# Altium footprint library OpenVizsla footprints.PcbLib: 47 footprints (part 2 of 3)
Each footprint in its own frame and in the unit in brackets; x right, y up, seen from the top. Pads: shape width x height; smd on the part's side, far side on the other; paste and mask are expansions set on the pad; w line width, h text height; cw(c..) or ccw(c..) is an arc to the next point about the centre after c.
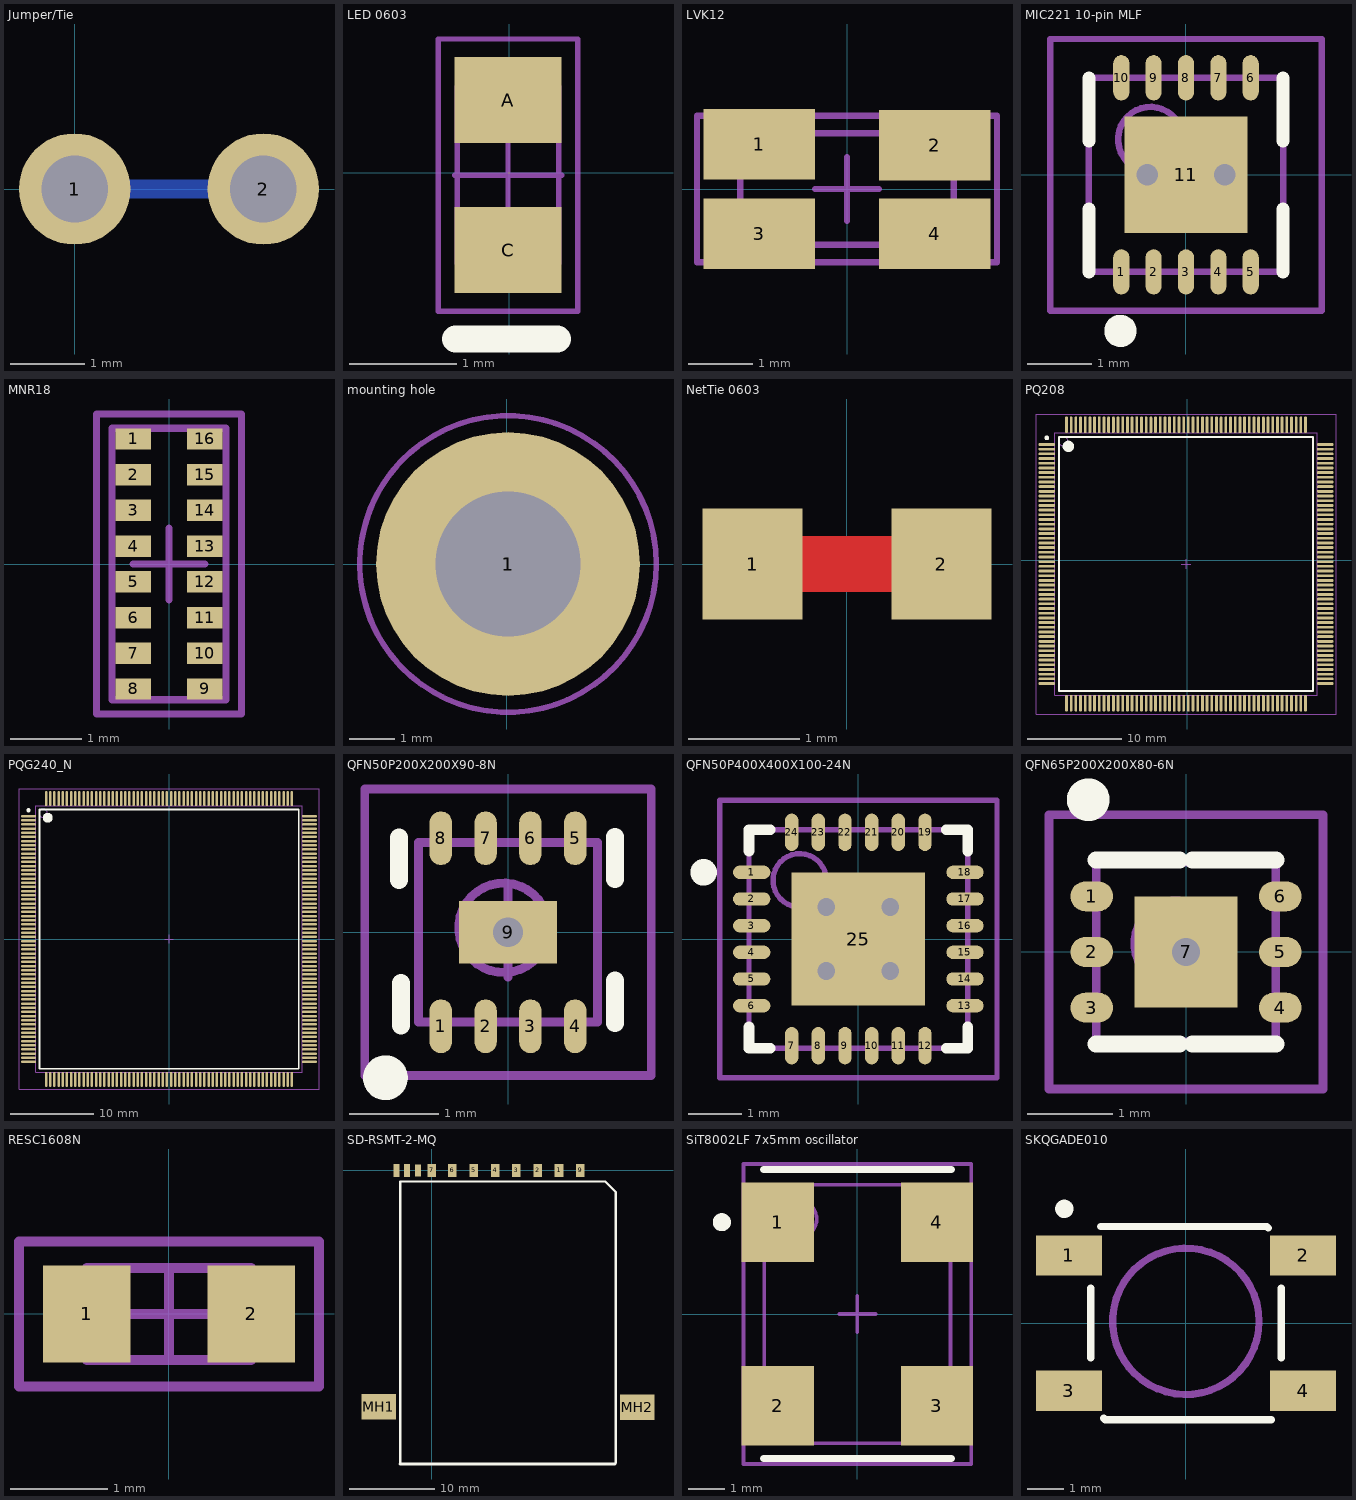
[diagram p1: the footprints below, top view; thin cyan lines are the x and y axes]

## Jumper/Tie [mm] "Jumper / Net Tie"
pads (2):
  round 1.5 hole 0.9: 1(0,0) 2(2.54,0)
Bottom Layer:
  lines w0.254: 0,0 2.54,0

## LED 0603 [mm]
pads (2):
  rect 1x0.8 smd: A(-0.01,0.68) C(-0.01,-0.72)
Top Overlay:
  lines w0.254: -0.5,-1.55 0.45,-1.55
Mechanical 11:
  lines w0.005: -0.485,-0.845 -0.485,-0.02 -0.485,0.805 0.465,0.805 0.465,-0.845 -0.485,-0.845
Mechanical 13:
  lines w0.05: -0.485,-0.845 0.465,-0.845 0.465,0.805 -0.485,0.805 -0.485,-0.02 -0.485,-0.845
Mechanical 15:
  lines w0.05: -0.51,-0.02 -0.01,-0.02 ; -0.01,-0.52 -0.01,-0.02 ; -0.01,0.48 -0.01,-0.02 ; 0.49,-0.02 -0.01,-0.02 ; -0.66,-1.29 0.64,-1.29 0.64,1.25 -0.66,1.25 -0.66,-0.02 -0.66,-1.29
3D body: height 0.71, standoff -0.01, extent -0.391,-0.833 0.396,0.793
3D body: height 0.75, standoff 0, extent -0.38,-0.58 0.39,0.54

## LVK12 [mm] "4-terminal current-sensing chip resistor"
height 0.65
pads (4):
  rect 1.75x1.1 smd: 1(-1.375,0.7) 2(1.375,0.686) 3(-1.375,-0.7) 4(1.375,-0.7)
Mechanical 13:
  lines w0.1: -1.675,-0.875 1.675,-0.875 1.675,0.875 -1.675,0.875 -1.675,-0.875
Mechanical 15:
  lines w0.1: -0.5,0 0.5,0 ; 0,-0.5 0,0.5 ; -2.35,-1.15 2.35,-1.15 2.35,1.15 -2.35,1.15 -2.35,-1.15
3D body: height 0.71, standoff 0, extent -1.675,-0.875 1.675,0.875

## MIC221 10-pin MLF [mm] "QFN, 10-Leads, Body 3.0x3.0mm (max), Pitch 0.50mm, IPC Medium Density"
height 1
pads (11):
  oval 0.25x0.7 smd: 1(-1,-1.5) 2(-0.5,-1.5) 3(0,-1.5) 4(0.5,-1.5) 5(1,-1.5) 6(1,1.5) 7(0.5,1.5) 8(0,1.5) 9(-0.5,1.5) 10(-1,1.5)
  rect 1.9x1.8 smd: 11(0,0)
via 0.6,0 diameter 0.66 hole 0.33
via -0.6,0 diameter 0.66 hole 0.33
Top Overlay:
  circle w0.25: c-1.014,-2.413 r0.125
  lines w0.2: -1.5,-1.5 -1.5,-0.525 ; -1.5,0.525 -1.5,1.5 ; 1.5,-1.5 1.5,-0.525 ; 1.5,0.525 1.5,1.5
Mechanical 13:
  circle w0.1: c-0.55,0.55 r0.5
  lines w0.1: -1.5,-1.5 1.5,-1.5 1.5,1.5 -1.5,1.5 -1.5,-1.5
Mechanical 15:
  lines w0.1: -0.5,0 0.5,0 ; 0,-0.5 0,0.5 ; -2.1,-2.1 2.1,-2.1 2.1,2.1 -2.1,2.1 -2.1,-2.1
3D body: height 1, standoff 0, extent -1.5,-1.5 1.5,1.5

## MNR18 [mm] "8-element chip resistor array (0602x8)"
height 0.45
pads (16):
  rect 0.5x0.3 smd mask+0: 1(-0.5,1.75) 2(-0.5,1.25) 3(-0.5,0.75) 4(-0.5,0.25) 5(-0.5,-0.25) 6(-0.5,-0.75) 7(-0.5,-1.25) 8(-0.5,-1.75) 9(0.5,-1.75) 10(0.5,-1.25) 11(0.5,-0.75) 12(0.5,-0.25) 13(0.5,0.25) 14(0.5,0.75) 15(0.5,1.25) 16(0.5,1.75)
Mechanical 13:
  lines w0.1: -0.8,-1.9 0.8,-1.9 0.8,1.9 -0.8,1.9 -0.8,-1.9
Mechanical 15:
  lines w0.1: -0.5,0 0.5,0 ; 0,-0.5 0,0.5 ; -1.016,-2.1 1.016,-2.1 1.016,2.1 -1.016,2.1 -1.016,-2.1
3D body: height 1, standoff 0, extent -0.8,-1.9 0.8,1.9

## mounting hole [mm] "mounting hole"
pads (2):
  round 5.8 hole 3.2: 1(0.025,0)
  round 3.2 on Mech2: 1(0.025,0)
Mechanical 5:
  circle w0.1: c0.025,0 r3.25
  lines w0.1: -1.975,-0.5 -0.475,-0.5 -0.475,-2 0.525,-2 0.525,-0.5 2.025,-0.5 2.025,0.5 0.525,0.5 0.525,2 -0.475,2 -0.475,0.5 -1.975,0.5 -1.975,-0.5
Mechanical 13:
  circle w0.1: c0.025,0 r1.6
  circle w0.1: c0.025,0 r3.25
Mechanical 14:
  circle w0.1: c0.025,0 r3.25
  circle w0.1: c0.025,0 r1.6
Mechanical 15:
  circle w0.05: c0.025,0 r3.3
  lines w0.05: -0.975,0 1.025,0 ; 0.025,-1 0.025,1
Mechanical 16:
  circle w0.05: c0.025,0 r3.3
3D body: height 0.02, standoff 0, extent -2.975,-2.994 3.001,2.994
3D body: height 2.33, standoff -4, extent -3.8,-3.7 3.7,3.8
3D body: height 0.02, standoff 0, extent -2.975,-2.994 3.001,2.994

## NetTie 0603 [mm] "0603-footprint Net Tie"
pads (2):
  rect 0.9x1 smd paste-2.54: 1(-0.85,0) 2(0.85,0)
Top Layer:
  lines w0.508: -0.85,0 0.85,0

## PQ208 [mm]
pads (208):
  oval 1.8x0.3 smd: 1(-14.977,12.369) 2(-14.977,11.869) 3(-14.977,11.369) 4(-14.977,10.869) 5(-14.977,10.369) 6(-14.977,9.869) 7(-14.977,9.369) 8(-14.977,8.869) 9(-14.977,8.369) 10(-14.977,7.869) 11(-14.977,7.369) 12(-14.977,6.869) 13(-14.977,6.369) 14(-14.977,5.869) 15(-14.977,5.369) 16(-14.977,4.869) 17(-14.977,4.369) 18(-14.977,3.869) 19(-14.977,3.369) 20(-14.977,2.869) 21(-14.977,2.369) 22(-14.977,1.869) 23(-14.977,1.369) 24(-14.977,0.869) 25(-14.977,0.369) 26(-14.977,-0.131) 27(-14.977,-0.631) 28(-14.977,-1.131) 29(-14.977,-1.631) 30(-14.977,-2.131) 31(-14.977,-2.631) 32(-14.977,-3.131) 33(-14.977,-3.631) 34(-14.977,-4.131) 35(-14.977,-4.631) 36(-14.977,-5.131) 37(-14.977,-5.631) 38(-14.977,-6.131) 39(-14.977,-6.631) 40(-14.977,-7.131) 41(-14.977,-7.631) 42(-14.977,-8.131) 43(-14.977,-8.631) 44(-14.977,-9.131) 45(-14.977,-9.631) 46(-14.977,-10.131) 47(-14.977,-10.631) 48(-14.977,-11.131) 49(-14.977,-11.631) 50(-14.977,-12.131) 51(-14.977,-12.631) 52(-14.977,-13.131) 105(14.723,-13.131) 106(14.723,-12.631) 107(14.723,-12.131) 108(14.723,-11.631) 109(14.723,-11.131) 110(14.723,-10.631) 111(14.723,-10.131) 112(14.723,-9.631) 113(14.723,-9.131) 114(14.723,-8.631) 115(14.723,-8.131) 116(14.723,-7.631) 117(14.723,-7.131) 118(14.723,-6.631) 119(14.723,-6.131) 120(14.723,-5.631) 121(14.723,-5.131) 122(14.723,-4.631) 123(14.723,-4.131) 124(14.723,-3.631) 125(14.723,-3.131) 126(14.723,-2.631) 127(14.723,-2.131) 128(14.723,-1.631) 129(14.723,-1.131) 130(14.723,-0.631) 131(14.723,-0.131) 132(14.723,0.369) 133(14.723,0.869) 134(14.723,1.369) 135(14.723,1.869) 136(14.723,2.369) 137(14.723,2.869) 138(14.723,3.369) 139(14.723,3.869) 140(14.723,4.369) 141(14.723,4.869) 142(14.723,5.369) 143(14.723,5.869) 144(14.723,6.369) 145(14.723,6.869) 146(14.723,7.369) 147(14.723,7.869) 148(14.723,8.369) 149(14.723,8.869) 150(14.723,9.369) 151(14.723,9.869) 152(14.723,10.369) 153(14.723,10.869) 154(14.723,11.369) 155(14.723,11.869) 156(14.723,12.369)
  oval 0.3x1.8 smd: 53(-12.877,-15.231) 54(-12.377,-15.231) 55(-11.877,-15.231) 56(-11.377,-15.231) 57(-10.877,-15.231) 58(-10.377,-15.231) 59(-9.877,-15.231) 60(-9.377,-15.231) 61(-8.877,-15.231) 62(-8.377,-15.231) 63(-7.877,-15.231) 64(-7.377,-15.231) 65(-6.877,-15.231) 66(-6.377,-15.231) 67(-5.877,-15.231) 68(-5.377,-15.231) 69(-4.877,-15.231) 70(-4.377,-15.231) 71(-3.877,-15.231) 72(-3.377,-15.231) 73(-2.877,-15.231) 74(-2.377,-15.231) 75(-1.877,-15.231) 76(-1.377,-15.231) 77(-0.877,-15.231) 78(-0.377,-15.231) 79(0.123,-15.231) 80(0.623,-15.231) 81(1.123,-15.231) 82(1.623,-15.231) 83(2.123,-15.231) 84(2.623,-15.231) 85(3.123,-15.231) 86(3.623,-15.231) 87(4.123,-15.231) 88(4.623,-15.231) 89(5.123,-15.231) 90(5.623,-15.231) 91(6.123,-15.231) 92(6.623,-15.231) 93(7.123,-15.231) 94(7.623,-15.231) 95(8.123,-15.231) 96(8.623,-15.231) 97(9.123,-15.231) 98(9.623,-15.231) 99(10.123,-15.231) 100(10.623,-15.231) 101(11.123,-15.231) 102(11.623,-15.231) 103(12.123,-15.231) 104(12.623,-15.231) 157(12.623,14.469) 158(12.123,14.469) 159(11.623,14.469) 160(11.123,14.469) 161(10.623,14.469) 162(10.123,14.469) 163(9.623,14.469) 164(9.123,14.469) 165(8.623,14.469) 166(8.123,14.469) 167(7.623,14.469) 168(7.123,14.469) 169(6.623,14.469) 170(6.123,14.469) 171(5.623,14.469) 172(5.123,14.469) 173(4.623,14.469) 174(4.123,14.469) 175(3.623,14.469) 176(3.123,14.469) 177(2.623,14.469) 178(2.123,14.469) 179(1.623,14.469) 180(1.123,14.469) 181(0.623,14.469) 182(0.123,14.469) 183(-0.377,14.469) 184(-0.877,14.469) 185(-1.377,14.469) 186(-1.877,14.469) 187(-2.377,14.469) 188(-2.877,14.469) 189(-3.377,14.469) 190(-3.877,14.469) 191(-4.377,14.469) 192(-4.877,14.469) 193(-5.377,14.469) 194(-5.877,14.469) 195(-6.377,14.469) 196(-6.877,14.469) 197(-7.377,14.469) 198(-7.877,14.469) 199(-8.377,14.469) 200(-8.877,14.469) 201(-9.377,14.469) 202(-9.877,14.469) 203(-10.377,14.469) 204(-10.877,14.469) 205(-11.377,14.469) 206(-11.877,14.469) 207(-12.377,14.469) 208(-12.877,14.469)
Top Overlay:
  circle w0.6: c-12.677,12.169 r0.3
  circle w0.25: c-14.977,13.069 r0.125
  lines w0.2: -13.677,-13.931 13.423,-13.931 13.423,13.169 -13.677,13.169 -13.677,-13.931
Mechanical 13:
  circle w0.1: c-13.227,12.719 r0.5
  lines w0.1: -14.127,-14.381 13.873,-14.381 13.873,13.619 -14.127,13.619 -14.127,-14.381
Mechanical 15:
  lines w0.1: -0.627,-0.381 0.373,-0.381 ; -0.127,-0.881 -0.127,0.119 ; -16.127,-16.381 15.873,-16.381 15.873,15.619 -16.127,15.619 -16.127,-16.381
3D body: height 4.1, standoff 0, extent -14.127,-14.381 13.873,13.619

## PQG240_N [mm] "240-Pin Plastic Quad Flat Pack (PQG240) - Pb-Free, IPC Medium Density"
height 4.1
pads (240):
  oval 1.8x0.3 smd: 1(-16.85,14.75) 2(-16.85,14.25) 3(-16.85,13.75) 4(-16.85,13.25) 5(-16.85,12.75) 6(-16.85,12.25) 7(-16.85,11.75) 8(-16.85,11.25) 9(-16.85,10.75) 10(-16.85,10.25) 11(-16.85,9.75) 12(-16.85,9.25) 13(-16.85,8.75) 14(-16.85,8.25) 15(-16.85,7.75) 16(-16.85,7.25) 17(-16.85,6.75) 18(-16.85,6.25) 19(-16.85,5.75) 20(-16.85,5.25) 21(-16.85,4.75) 22(-16.85,4.25) 23(-16.85,3.75) 24(-16.85,3.25) 25(-16.85,2.75) 26(-16.85,2.25) 27(-16.85,1.75) 28(-16.85,1.25) 29(-16.85,0.75) 30(-16.85,0.25) 31(-16.85,-0.25) 32(-16.85,-0.75) 33(-16.85,-1.25) 34(-16.85,-1.75) 35(-16.85,-2.25) 36(-16.85,-2.75) 37(-16.85,-3.25) 38(-16.85,-3.75) 39(-16.85,-4.25) 40(-16.85,-4.75) 41(-16.85,-5.25) 42(-16.85,-5.75) 43(-16.85,-6.25) 44(-16.85,-6.75) 45(-16.85,-7.25) 46(-16.85,-7.75) 47(-16.85,-8.25) 48(-16.85,-8.75) 49(-16.85,-9.25) 50(-16.85,-9.75) 51(-16.85,-10.25) 52(-16.85,-10.75) 53(-16.85,-11.25) 54(-16.85,-11.75) 55(-16.85,-12.25) 56(-16.85,-12.75) 57(-16.85,-13.25) 58(-16.85,-13.75) 59(-16.85,-14.25) 60(-16.85,-14.75) 121(16.85,-14.75) 122(16.85,-14.25) 123(16.85,-13.75) 124(16.85,-13.25) 125(16.85,-12.75) 126(16.85,-12.25) 127(16.85,-11.75) 128(16.85,-11.25) 129(16.85,-10.75) 130(16.85,-10.25) 131(16.85,-9.75) 132(16.85,-9.25) 133(16.85,-8.75) 134(16.85,-8.25) 135(16.85,-7.75) 136(16.85,-7.25) 137(16.85,-6.75) 138(16.85,-6.25) 139(16.85,-5.75) 140(16.85,-5.25) 141(16.85,-4.75) 142(16.85,-4.25) 143(16.85,-3.75) 144(16.85,-3.25) 145(16.85,-2.75) 146(16.85,-2.25) 147(16.85,-1.75) 148(16.85,-1.25) 149(16.85,-0.75) 150(16.85,-0.25) 151(16.85,0.25) 152(16.85,0.75) 153(16.85,1.25) 154(16.85,1.75) 155(16.85,2.25) 156(16.85,2.75) 157(16.85,3.25) 158(16.85,3.75) 159(16.85,4.25) 160(16.85,4.75) 161(16.85,5.25) 162(16.85,5.75) 163(16.85,6.25) 164(16.85,6.75) 165(16.85,7.25) 166(16.85,7.75) 167(16.85,8.25) 168(16.85,8.75) 169(16.85,9.25) 170(16.85,9.75) 171(16.85,10.25) 172(16.85,10.75) 173(16.85,11.25) 174(16.85,11.75) 175(16.85,12.25) 176(16.85,12.75) 177(16.85,13.25) 178(16.85,13.75) 179(16.85,14.25) 180(16.85,14.75)
  oval 0.3x1.8 smd: 61(-14.75,-16.85) 62(-14.25,-16.85) 63(-13.75,-16.85) 64(-13.25,-16.85) 65(-12.75,-16.85) 66(-12.25,-16.85) 67(-11.75,-16.85) 68(-11.25,-16.85) 69(-10.75,-16.85) 70(-10.25,-16.85) 71(-9.75,-16.85) 72(-9.25,-16.85) 73(-8.75,-16.85) 74(-8.25,-16.85) 75(-7.75,-16.85) 76(-7.25,-16.85) 77(-6.75,-16.85) 78(-6.25,-16.85) 79(-5.75,-16.85) 80(-5.25,-16.85) 81(-4.75,-16.85) 82(-4.25,-16.85) 83(-3.75,-16.85) 84(-3.25,-16.85) 85(-2.75,-16.85) 86(-2.25,-16.85) 87(-1.75,-16.85) 88(-1.25,-16.85) 89(-0.75,-16.85) 90(-0.25,-16.85) 91(0.25,-16.85) 92(0.75,-16.85) 93(1.25,-16.85) 94(1.75,-16.85) 95(2.25,-16.85) 96(2.75,-16.85) 97(3.25,-16.85) 98(3.75,-16.85) 99(4.25,-16.85) 100(4.75,-16.85) 101(5.25,-16.85) 102(5.75,-16.85) 103(6.25,-16.85) 104(6.75,-16.85) 105(7.25,-16.85) 106(7.75,-16.85) 107(8.25,-16.85) 108(8.75,-16.85) 109(9.25,-16.85) 110(9.75,-16.85) 111(10.25,-16.85) 112(10.75,-16.85) 113(11.25,-16.85) 114(11.75,-16.85) 115(12.25,-16.85) 116(12.75,-16.85) 117(13.25,-16.85) 118(13.75,-16.85) 119(14.25,-16.85) 120(14.75,-16.85) 181(14.75,16.85) 182(14.25,16.85) 183(13.75,16.85) 184(13.25,16.85) 185(12.75,16.85) 186(12.25,16.85) 187(11.75,16.85) 188(11.25,16.85) 189(10.75,16.85) 190(10.25,16.85) 191(9.75,16.85) 192(9.25,16.85) 193(8.75,16.85) 194(8.25,16.85) 195(7.75,16.85) 196(7.25,16.85) 197(6.75,16.85) 198(6.25,16.85) 199(5.75,16.85) 200(5.25,16.85) 201(4.75,16.85) 202(4.25,16.85) 203(3.75,16.85) 204(3.25,16.85) 205(2.75,16.85) 206(2.25,16.85) 207(1.75,16.85) 208(1.25,16.85) 209(0.75,16.85) 210(0.25,16.85) 211(-0.25,16.85) 212(-0.75,16.85) 213(-1.25,16.85) 214(-1.75,16.85) 215(-2.25,16.85) 216(-2.75,16.85) 217(-3.25,16.85) 218(-3.75,16.85) 219(-4.25,16.85) 220(-4.75,16.85) 221(-5.25,16.85) 222(-5.75,16.85) 223(-6.25,16.85) 224(-6.75,16.85) 225(-7.25,16.85) 226(-7.75,16.85) 227(-8.25,16.85) 228(-8.75,16.85) 229(-9.25,16.85) 230(-9.75,16.85) 231(-10.25,16.85) 232(-10.75,16.85) 233(-11.25,16.85) 234(-11.75,16.85) 235(-12.25,16.85) 236(-12.75,16.85) 237(-13.25,16.85) 238(-13.75,16.85) 239(-14.25,16.85) 240(-14.75,16.85)
Top Overlay:
  circle w0.6: c-14.55,14.55 r0.3
  circle w0.25: c-16.85,15.45 r0.125
  lines w0.2: -15.55,-15.55 15.55,-15.55 15.55,15.55 -15.55,15.55 -15.55,-15.55
Mechanical 13:
  circle w0.1: c-15.1,15.1 r0.5
  lines w0.1: -16,-16 16,-16 16,16 -16,16 -16,-16
Mechanical 15:
  lines w0.1: -0.5,0 0.5,0 ; 0,-0.5 0,0.5 ; -18,-18 18,-18 18,18 -18,18 -18,-18
3D body: height 4.1, standoff 0, extent -16,-16 16,16

## QFN50P200X200X90-8N [mm] "QFN, 8-Leads, Body 2.0x2.0mm (max), Pitch 0.50mm, IPC Medium Density"
height 0.9
pads (9):
  oval 0.25x0.6 smd: 1(-0.75,-1.05) 2(-0.25,-1.05) 3(0.25,-1.05) 4(0.75,-1.05) 5(0.75,1.05) 6(0.25,1.05) 7(-0.25,1.05) 8(-0.75,1.05)
  rect 1.1x0.7 smd: 9(0,0)
via 0,0 diameter 0.66 hole 0.33
Top Overlay:
  circle w0.25: c-1.37,-1.626 r0.125
  lines w0.2: -1.219,0.584 -1.219,1.059 ; -1.194,-1.041 -1.194,-0.566 ; 1.194,-1.016 1.194,-0.541 ; 1.194,0.592 1.194,1.067
Mechanical 13:
  circle w0.1: c-0.05,0.05 r0.5
  lines w0.1: -1,-1 -1,1 1,1 1,-1 -1,-1
Mechanical 15:
  lines w0.1: -0.5,0 0.5,0 ; 0,-0.5 0,0.5 ; -1.6,-1.6 -1.6,1.6 1.6,1.6 1.6,-1.6 -1.6,-1.6
3D body: height 0.9, standoff 0, extent -1,-1 1,1

## QFN50P400X400X100-24N [mm] "QFN, 24-Leads, Body 4.1x4.1mm (max), Pitch 0.50mm, IPC Medium Density"
height 1
pads (25):
  oval 0.7x0.25 smd mask+0: 1(-2,1.25) 2(-2,0.75) 3(-2,0.25) 4(-2,-0.25) 5(-2,-0.75) 6(-2,-1.25) 13(2,-1.25) 14(2,-0.75) 15(2,-0.25) 16(2,0.25) 17(2,0.75) 18(2,1.25)
  oval 0.25x0.7 smd mask+0: 7(-1.25,-2) 8(-0.75,-2) 9(-0.25,-2) 10(0.25,-2) 11(0.75,-2) 12(1.25,-2) 19(1.25,2) 20(0.75,2) 21(0.25,2) 22(-0.25,2) 23(-0.75,2) 24(-1.25,2)
  rect 2.5x2.5 smd mask+0: 25(0,0)
via 0.6,-0.6 diameter 0.66 hole 0.33
via -0.6,-0.6 diameter 0.66 hole 0.33
via 0.6,0.6 diameter 0.66 hole 0.33
via -0.6,0.6 diameter 0.66 hole 0.33
Top Overlay:
  circle w0.25: c-2.9,1.25 r0.125
  lines w0.2: -2.05,-1.651 -2.05,-2.05 -1.651,-2.05 ; -2.05,1.651 -2.05,2.05 -1.651,2.05 ; 1.651,-2.05 2.05,-2.05 2.05,-1.651 ; 1.651,2.05 2.05,2.05 2.05,1.651
Mechanical 13:
  circle w0.1: c-1.1,1.1 r0.5
  lines w0.1: -2.05,-2.05 2.05,-2.05 2.05,2.05 -2.05,2.05 -2.05,-2.05
Mechanical 15:
  lines w0.1: -0.5,0 0.5,0 ; 0,-0.5 0,0.5 ; -2.6,-2.6 2.6,-2.6 2.6,2.6 -2.6,2.6 -2.6,-2.6
3D body: height 1, standoff 0, extent -2.05,-2.05 2.05,2.05

## QFN65P200X200X80-6N [mm] "QFN, 6-Leads, Body 2.1x2.1mm (max), Pitch 0.65mm, IPC Medium Density"
height 0.8
pads (7):
  oval 0.5x0.35 smd: 1(-1.1,0.65) 2(-1.1,0) 3(-1.1,-0.65) 4(1.1,-0.65) 5(1.1,0) 6(1.1,0.65)
  rect 1.2x1.3 smd: 7(0,0)
via 0,0 diameter 0.66 hole 0.33
Top Overlay:
  circle w0.25: c-1.141,1.778 r0.125
  lines w0.2: -1.05,-1.075 -0.075,-1.075 ; -1.05,1.075 -0.075,1.075 ; 0.075,-1.075 1.05,-1.075 ; 0.075,1.075 1.05,1.075
Mechanical 13:
  circle w0.1: c-0.1,0.1 r0.5
  lines w0.1: -1.05,-1.05 1.05,-1.05 1.05,1.05 -1.05,1.05 -1.05,-1.05
Mechanical 15:
  lines w0.1: -0.5,0 0.5,0 ; 0,-0.5 0,0.5 ; -1.6,-1.6 1.6,-1.6 1.6,1.6 -1.6,1.6 -1.6,-1.6
3D body: height 0.8, standoff 0, extent -1.05,-1.05 1.05,1.05

## RESC1608N [mm] "Chip Resistor, Body 1.6x0.8mm, IPC Medium Density"
height 0.6
pads (2):
  rect 0.9x1 smd: 1(-0.85,0) 2(0.85,0)
Mechanical 13:
  lines w0.1: -0.85,-0.475 0.85,-0.475 0.85,0.475 -0.85,0.475 -0.85,-0.475
Mechanical 15:
  lines w0.1: -0.475,0 0.475,0 ; 0,-0.475 0,0.475 ; -1.55,-0.75 1.55,-0.75 1.55,0.75 -1.55,0.75 -1.55,-0.75
3D body: height 0.6, standoff 0, extent -0.85,-0.475 0.85,0.475

## SD-RSMT-2-MQ [mm] "SD card slot"
pads (13):
  rect 1x1.5 smd: 1(14.93,0) 2(12.43,0) 3(9.93,0) 4(7.43,0) 5(4.93,0) 6(2.43,0) 7(0,0) 9(17.43,0)
  rect 0.7x1.4 smd: 8(-1.6,0)
  rect 4x3 smd: MH1(-6.2,-27.7) MH2(24.1,-27.75)
  rect 0.7x1.5 smd: SW2(-4.1,0) SW3(-2.9,0)
Top Overlay:
  lines w0.254: -3.683,-34.417 -3.683,-1.3 20.35,-1.3 21.59,-2.54 21.59,-34.29
  lines w0.381: -3.683,-34.417 21.463,-34.417
3D body: height 3.83, standoff -0.51, extent -5.22,-28.61 22.46,1.09

## SiT8002LF 7x5mm oscillator [mm] "SiT8002LF 7x5mm oscillator"
height 0.85
pads (4):
  rect 2x2.2 smd: 1(-2.2,2.54) 2(-2.2,-2.54) 3(2.2,-2.54) 4(2.2,2.54)
Top Overlay:
  circle w0.25: c-3.75,2.54 r0.125
  lines w0.2: -2.6,-4 0.5,-4 ; -2.6,4 0.5,4 ; -0.5,-4 2.6,-4 ; -0.5,4 2.6,4
Mechanical 13:
  circle w0.1: c-1.625,2.625 r0.5
  lines w0.1: -2.575,-3.575 -2.575,3.575 2.575,3.575 2.575,-3.575 -2.575,-3.575
Mechanical 15:
  lines w0.1: -0.5,0 0.5,0 ; 0,-0.5 0,0.5 ; -3.15,-4.15 -3.15,4.15 3.15,4.15 3.15,-4.15 -3.15,-4.15
3D body: height 0.85, standoff 0, extent -2.575,-3.575 2.575,3.575

## SKQGADE010 [mm] "Alps Tact switch"
height 1.5
pads (4):
  rect 1.8x1.1 smd: 1(-3.2,1.85) 2(3.2,1.85) 3(-3.2,-1.85) 4(3.2,-1.85)
Top Overlay:
  circle w0.25: c-3.325,3.125 r0.125
  lines w0.2: -2.6,-0.95 -2.6,0.95 ; -2.337,2.641 2.206,2.641 2.249,2.599 ; -2.249,-2.599 -2.206,-2.641 2.337,-2.641 ; 2.6,-0.95 2.6,0.95
Mechanical 1:
  circle w0.2: c-0.003,0.05 r2